# EAGLE library part 687122183722 (library Eagle_FPC_CONNECTOR_AND_FFC_CAB (rev18c))
687122183722 WR-FPC 0.50mm SMT Horizontal Bottom Contact - Low Profile <http://katalog.we-online.de/media/images/v2/Family_WR-FPC_6871xx183722.jpg> Details see: http://katalog.we-online.de/en/em/FPC_0_5_SMT_ZIF_HORIZONTAL_BOTTOM_CONTACT_LOW_PROFILE_6871xx183722 Created by Yingchun,shan 2016 (C) Wurth Elektronik
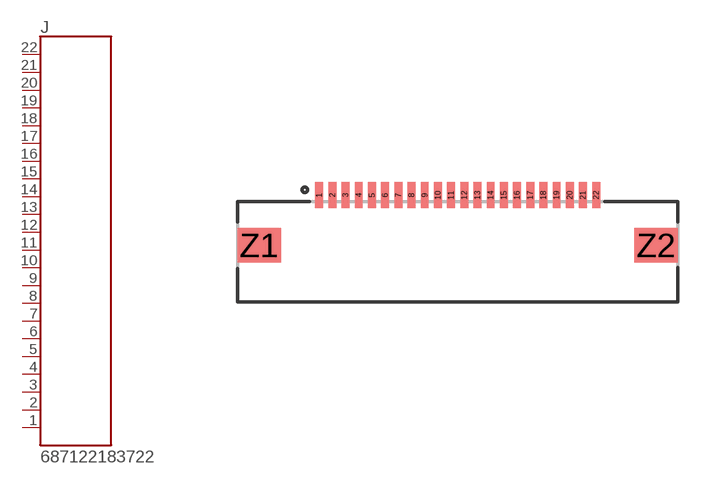
[diagram p203: symbol with the pads of 687122183722; footprint 687122183722]

Designator prefix J

## 687122183722  [687122183722]
1  22  pas
2  21  pas
3  20  pas
4  19  pas
5  18  pas
6  17  pas
7  16  pas
8  15  pas
9  14  pas
10  13  pas
11  12  pas
12  11  pas
13  10  pas
14  9  pas
15  8  pas
16  7  pas
17  6  pas
18  5  pas
19  4  pas
20  3  pas
21  2  pas
22  1  pas

## Footprint 687122183722 (pad centres in mm)
smd 0.3 x 1: 1 -5.25,1.9; 2 -4.75,1.9; 3 -4.25,1.9; 4 -3.75,1.9; 5 -3.25,1.9; 6 -2.75,1.9; 7 -2.25,1.9; 8 -1.75,1.9; 9 -1.25,1.9; 10 -0.75,1.9; 11 -0.25,1.9; 12 0.25,1.9; 13 0.75,1.9; 14 1.25,1.9; 15 1.75,1.9; 16 2.25,1.9; 17 2.75,1.9; 18 3.25,1.9; 19 3.75,1.9; 20 4.25,1.9; 21 4.75,1.9; 22 5.25,1.9
smd 1.65 x 1.3: Z1 -7.525,0; Z2 7.525,0